# Altium footprint library ECET231PCBLIB_Rev04.PCBLIB: 19 footprints (part 2 of 2)
Each footprint in its own frame and in the unit in brackets; x right, y up, seen from the top. Pads: shape width x height; smd on the part's side, far side on the other; paste and mask are expansions set on the pad; w line width, h text height; cw(c..) or ccw(c..) is an arc to the next point about the centre after c.
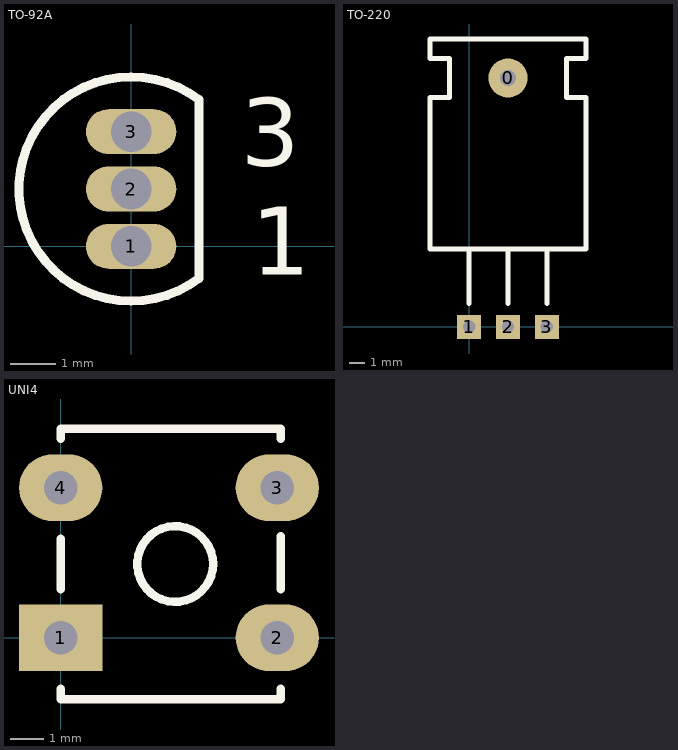
[diagram p1: the footprints below, top view; thin cyan lines are the x and y axes]

## TO-92A [mm]
pads (3):
  oval 2x1 hole 0.9: 1(0,0) 2(0,1.27) 3(0,2.54)
TopOverlay:
  lines w0.2: 1.5,-0.71 cw(c0,1.27) 1.5,3.25 1.5,-0.71
  text "1" at 2.66,-0.63 h1.5
  text "3" at 2.43,1.78 h1.5
3D body "TO-92A.STEP": height 5.17, standoff -7.83, extent -2.616,-1.292 1.587,3.934

## TO-220 [mil]
pads (4):
  round 100 hole 40: 0(100,639)
  rect 62x62 hole 32: 1(0,0) 2(100,0) 3(200,0)
TopOverlay:
  lines w12: -100,586 -100,200 300,200 300,589 250,589 250,689 300,689 300,739 -100,739 -100,689 -50,689 -50,589 -100,589 ; 0,60 0,200 ; 100,60 100,200 ; 200,60 200,200
3D body "TO-220 right-angle.step": height 172.35, standoff -111.11, extent -100,-9.84 300,757.48

## UNI4 [mm]
pads (4):
  rect 2.5x2 hole 1: 1(0,0)
  oval 2.5x2 hole 1: 2(6.5,0) 3(6.5,4.5) 4(0,4.5)
TopOverlay:
  circle w0.254: c3.436,2.214 r1.136
  lines w0.254: 0,-1.524 0,-1.85 6.604,-1.85 6.604,-1.524 ; 0,1.452 0,2.976 ; 0,5.969 0,6.278 6.604,6.278 6.604,5.969 ; 6.604,1.452 6.604,3.048